# EAGLE library part MS580302BA01-00 (library eDNA)
Pressure sensor https://www.digikey.com/product-detail/en/te-connectivity-measurement-specialties/MS580302BA01-00/223-1624-5-ND/5277629
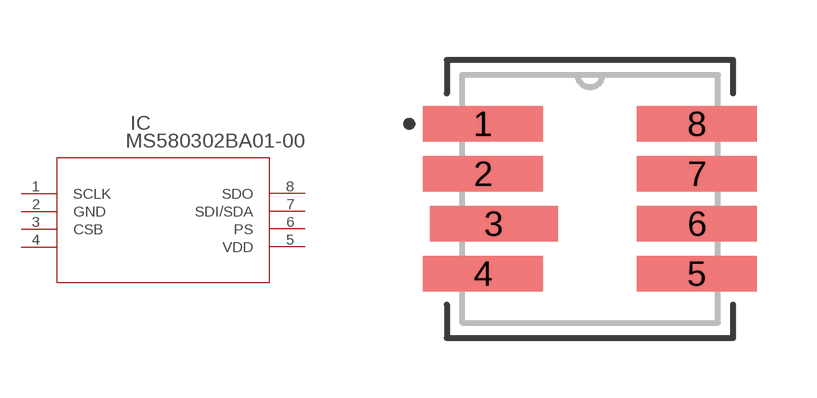
[diagram p8: symbol with the pads of MS5803-02BA01; footprint MS5803-02BA01]

Designator prefix IC

## MS580302BA01-00 (MANUFACTURER_PART_NUMBER: MS580302BA0100; VENDOR: TE Connectivity)  [MS5803-02BA01]
1  SCLK  in
2  GND  pas
3  CSB  in
4  NC  nc
5  VDD  pwr
6  PS  in
7  SDI/SDA  in
8  SDO  out

## Footprint MS5803-02BA01 (pad centres in mm)
smd 3 x 0.889: 1 -2.675,1.875; 2 -2.675,0.625; 4 -2.675,-1.875; 5 2.675,-1.875; 6 2.675,-0.625; 7 2.675,0.625; 8 2.675,1.875
smd 3.2 x 0.889: 3 -2.408,-0.625